# EAGLE library part FSTH (library Sombeck_lib)
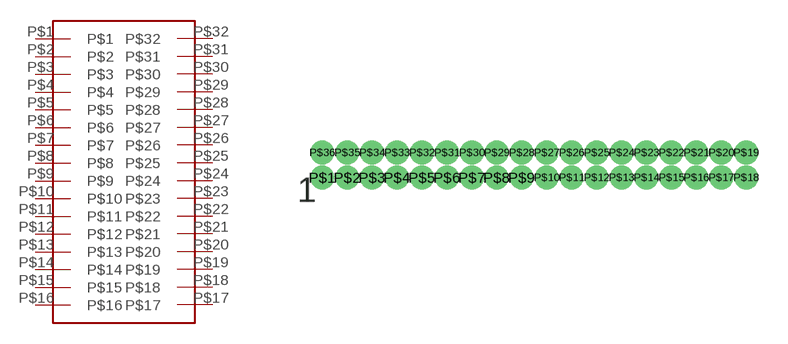
[diagram p6: symbol with the pads of FSTH-118; footprint FSTH-118]

Designator prefix -

## FSTH  [FSTH-118]
P$1  P$1
P$2  P$2
P$3  P$3
P$4  P$4
P$5  P$5
P$6  P$6
P$7  P$7
P$8  P$8
P$9  P$9
P$10  P$10
P$11  P$11
P$12  P$12
P$13  P$13
P$14  P$14
P$15  P$15
P$16  P$16
P$17  P$17
P$18  P$18
P$19  P$19
P$20  P$20
P$21  P$21
P$22  P$22
P$23  P$23
P$24  P$24
P$25  P$25
P$26  P$26
P$27  P$27
P$28  P$28
P$29  P$29
P$30  P$30
P$31  P$31
P$32  P$32

## Footprint FSTH-118 (pad centres in mm)
drill 0.7 pad 0.914: P$1 0,0; P$2 1.27,0; P$3 2.54,0; P$4 3.81,0; P$5 5.08,0; P$6 6.35,0; P$7 7.62,0; P$8 8.89,0; P$9 10.16,0; P$10 11.43,0; P$11 12.7,0; P$12 13.97,0; P$13 15.24,0; P$14 16.51,0; P$15 17.78,0; P$16 19.05,0; P$17 20.32,0; P$18 21.59,0; P$19 21.59,1.27; P$20 20.32,1.27; P$21 19.05,1.27; P$22 17.78,1.27; P$23 16.51,1.27; P$24 15.24,1.27; P$25 13.97,1.27; P$26 12.7,1.27; P$27 11.43,1.27; P$28 10.16,1.27; P$29 8.89,1.27; P$30 7.62,1.27; P$31 6.35,1.27; P$32 5.08,1.27; P$33 3.81,1.27; P$34 2.54,1.27; P$35 1.27,1.27; P$36 0,1.27